# Altium footprint library 284697E.PcbLib: 1 footprints
Each footprint in its own frame and in the unit in brackets; x right, y up, seen from the top. Pads: shape width x height; smd on the part's side, far side on the other; paste and mask are expansions set on the pad; w line width, h text height; cw(c..) or ccw(c..) is an arc to the next point about the centre after c.
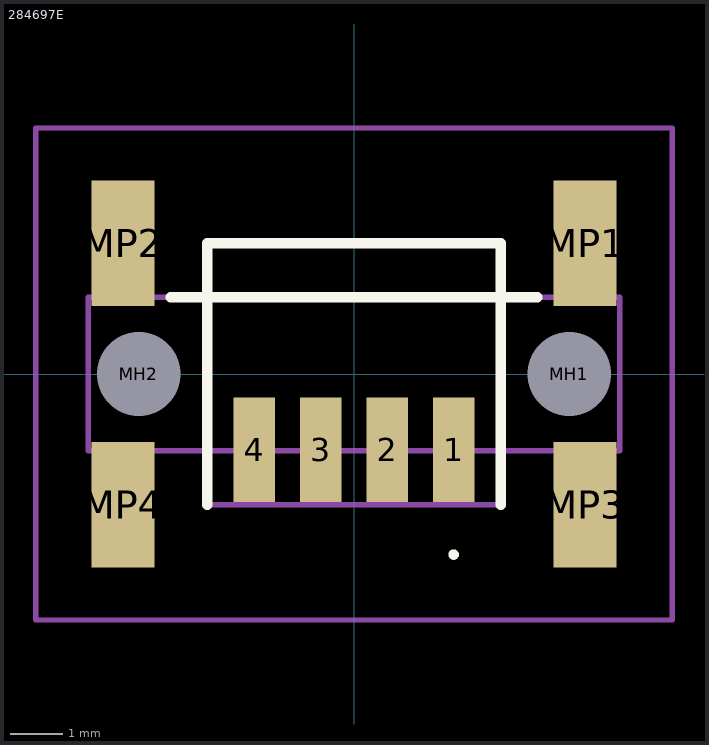
[diagram p0: the footprint, top view; thin cyan lines are the x and y axes]

## 284697E [mm]
pads (10):
  rect 0.8x2 smd: 1(1.905,-1.45) 2(0.635,-1.45) 3(-0.635,-1.45) 4(-1.905,-1.45)
  round 0.8 hole 1.6 unplated: MH1(4.115,0) MH2(-4.115,0)
  rect 1.2x2.4 smd: MP1(4.415,2.5) MP2(-4.415,2.5) MP3(4.415,-2.5) MP4(-4.415,-2.5)
Top Overlay:
  lines w0.1: 1.905,-3.5 cw(c1.905,-3.45) 1.905,-3.4 ; 1.905,-3.5 1.905,-3.5 ; 1.905,-3.5 ccw(c1.905,-3.45) 1.905,-3.4 ; 1.905,-3.4 1.905,-3.4
  lines w0.2: -3.5,1.465 3.5,1.465 ; -2.8,-2.5 -2.8,1.5 -2.8,2.5 2.8,2.5 2.8,1.465 2.8,-2.5
Mechanical 15:
  lines w0.1: -5.08,-1.465 5.08,-1.465 5.08,1.465 -5.08,1.465 -5.08,-1.465 ; -2.8,-2.5 2.8,-2.5 2.8,2.5 -2.8,2.5 -2.8,-2.5
Mechanical 20:
  lines w0.1: -6.08,-4.7 6.08,-4.7 6.08,4.7 -6.08,4.7 -6.08,-4.7